# Altium schematic symbol library 696105003002.SchLib: 1 symbol
Pins are listed as number, name and electrical type; pins without a type are passive.

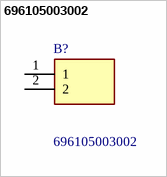
[diagram p0: symbol 696105003002]

## 696105003002
designator B?
Fuse Block 10 A 250V 1 Circuit Cartridge Through Hole; Manufacturer_Name: Wurth Elektronik; Geometry.Height: 11.6mm; Manufacturer_Part_Number: 696105003002; Mouser Part Number: 710-696105003002; Mouser Price/Stock: https://www.mouser.co.uk/ProductDetail/Wurth-Elektronik/696105003002?qs=%252BEew9%252B0nqrBA0IZP%252B5K6Dw%3D%3D; Arrow Part Number: *; Arrow Price/Stock: *; Datasheet Link: https://www.we-online.com/catalog/datasheet/696105003002.pdf
footprint 696105003002
pins: 1, 2